# EAGLE library part MCP1825T (library BaseApp)
Digikey No:- __MCP1825T-5002E/DCCT-ND__
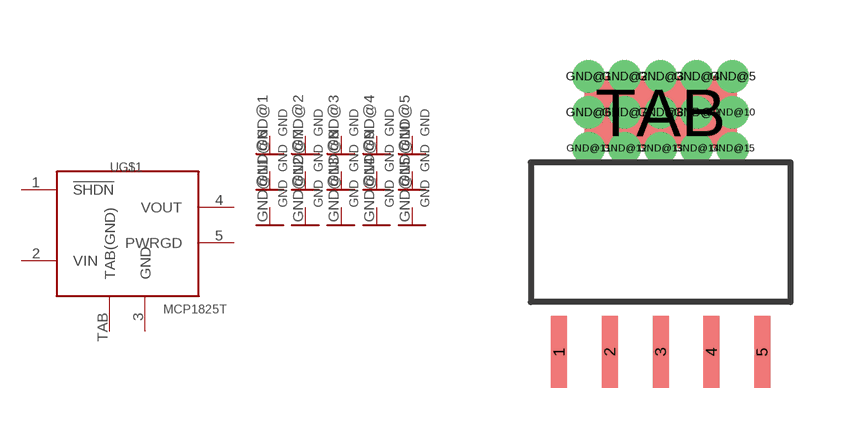
[diagram p50: symbol with the pads of SOT223-5; footprint SOT223-5]

Designator prefix -; gates G$1=MCP1825T G$2=GND G$3=GND G$4=GND G$5=GND G$6=GND G$7=GND G$8=GND G$9=GND G$10=GND G$11=GND G$12=GND G$13=GND G$14=GND G$15=GND G$16=GND

## MCP1825T  [SOT223-5]
1  G$1:!SHDN
2  G$1:VIN
3  G$1:GND
4  G$1:VOUT
5  G$1:PWRGD
GND@1  G$2:GND  pwr
GND@2  G$3:GND  pwr
GND@3  G$4:GND  pwr
GND@4  G$5:GND  pwr
GND@5  G$6:GND  pwr
GND@6  G$7:GND  pwr
GND@7  G$8:GND  pwr
GND@8  G$9:GND  pwr
GND@9  G$10:GND  pwr
GND@10  G$11:GND  pwr
GND@11  G$12:GND  pwr
GND@12  G$13:GND  pwr
GND@13  G$14:GND  pwr
GND@14  G$15:GND  pwr
GND@15  G$16:GND  pwr
TAB  G$1:TAB(GND)

## Footprint SOT223-5 (pad centres in mm)
smd 0.4 x 1.8: 1 -2.54,-3; 2 -1.27,-3; 3 0,-3; 4 1.27,-3; 5 2.54,-3
drill 0.305: GND@1 -1.8,3.9; GND@2 -0.9,3.9; GND@3 0,3.9; GND@4 0.9,3.9; GND@5 1.8,3.9; GND@6 -1.8,3; GND@7 -0.9,3; GND@8 0,3; GND@9 0.9,3; GND@10 1.8,3; GND@11 -1.8,2.1; GND@12 -0.9,2.1; GND@13 0,2.1; GND@14 0.9,2.1; GND@15 1.8,2.1
smd 3.81 x 1.8: TAB 0,3